# Altium footprint library L11.PcbLib: 7 footprints
Each footprint in its own frame and in the unit in brackets; x right, y up, seen from the top. Pads: shape width x height; smd on the part's side, far side on the other; paste and mask are expansions set on the pad; w line width, h text height; cw(c..) or ccw(c..) is an arc to the next point about the centre after c.
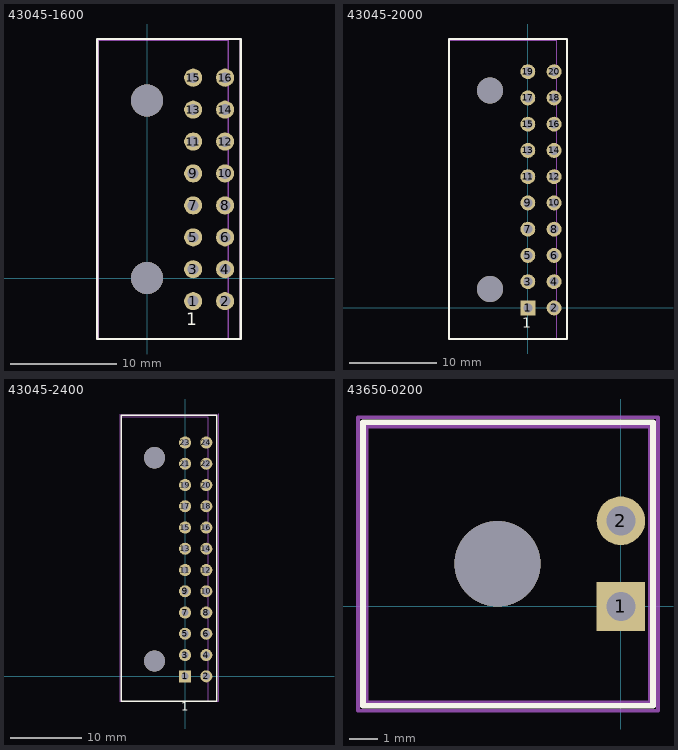
[diagram p0: the footprints below, top view; thin cyan lines are the x and y axes]

## 43045-0800 [mm] "Molex Micro-Fit 3.0 2x4"
3D body "430250800.stp": height 10.7, standoff -0.13, extent -5.969,-7.54 8.031,5.31

## 43045-1600 [mm] "Molex Micro-Fit 3.0 2x8"
pads (16):
  round 1.7 hole 1.02: 1(4.32,-2.16) 2(7.32,-2.16) 3(4.32,0.84) 4(7.32,0.84) 5(4.32,3.84) 6(7.32,3.84) 7(4.32,6.84) 8(7.32,6.84) 9(4.32,9.84) 10(7.32,9.84) 11(4.32,12.84) 12(7.32,12.84) 13(4.32,15.84) 14(7.32,15.84) 15(4.32,18.84) 16(7.32,18.84)
via 0,0 diameter 3 hole 3
via 0,16.7 diameter 3 hole 3
Top Overlay:
  lines w0.2: -4.697,-5.716 -4.697,22.478 8.795,22.478 8.795,-5.716 -4.697,-5.716
  text "1" at 3.683,-4.826 h2
Mechanical 13:
  lines w0.127: -4.618,-5.716 -4.618,22.381 7.622,22.381 7.622,-5.716 -4.618,-5.716
Mechanical 15:
  lines w0.127: -4.697,-5.716 8.745,-5.716 8.745,22.478 -4.697,22.478 -4.697,-5.716
Mechanical 17:
  text "'.Designator'" at -3.302,8.001 h0.5
3D body "c-4-794618-6-h-3d.stp": height 8.73, standoff -3.45, extent -4.618,-5.619 7.622,22.381

## 43045-2000 [mm] "Molex Micro-Fit 3.0 2x10"
pads (20):
  rect 1.7x1.7 hole 1.02: 1(0,0)
  round 1.7 hole 1.02: 2(3,0) 3(0,3) 4(3,3) 5(0,6) 6(3,6) 7(0,9) 8(3,9) 9(0,12) 10(3,12) 11(0,15) 12(3,15) 13(0,18) 14(3,18) 15(0,21) 16(3,21) 17(0,24) 18(3,24) 19(0,27) 20(3,27)
via -4.32,2.16 diameter 3 hole 3
via -4.32,24.86 diameter 3 hole 3
Top Overlay:
  lines w0.2: -9.017,-3.556 4.475,-3.556 4.475,30.734 -9.017,30.734 -9.017,-3.556
  text "1" at -0.637,-2.666 h2
Mechanical 13:
  lines w0.127: -8.938,-3.556 3.302,-3.556 3.302,30.607 -8.938,30.607 -8.938,-3.556
Mechanical 15:
  lines w0.127: -9.017,-3.556 -9.017,30.734 4.425,30.734 4.425,-3.556 -9.017,-3.556
Mechanical 17:
  text "'.Designator'" at -7.622,10.161 h0.5
3D body "430452000.stp": height 8.83, standoff -3.12, extent -8.916,-3.542 3.324,30.608

## 43045-2400 [mm] "Molex Micro-Fit 3.0 2x12"
pads (24):
  rect 1.7x1.7 hole 1.02: 1(0,0)
  round 1.7 hole 1.02: 2(3,0) 3(0,3) 4(3,3) 5(0,6) 6(3,6) 7(0,9) 8(3,9) 9(0,12) 10(3,12) 11(0,15) 12(3,15) 13(0,18) 14(3,18) 15(0,21) 16(3,21) 17(0,24) 18(3,24) 19(0,27) 20(3,27) 21(0,30) 22(3,30) 23(0,33) 24(3,33)
via -4.32,2.16 diameter 3 hole 3
via -4.32,30.86 diameter 3 hole 3
Top Overlay:
  lines w0.2: -9.017,-3.556 4.475,-3.556 4.475,36.825 -9.017,36.825 -9.017,-3.556
  text "1" at -0.5,-5.325 h2
Mechanical 2:
  lines w0.127: -8.938,-3.556 -8.938,36.65 3.302,36.65 3.302,-3.556 -8.938,-3.556
Mechanical 4:
  lines w0.127: -9.2,-3.556 -9.2,37.025 4.675,37.025 4.675,-3.556 -9.2,-3.556
3D body "430452400.stp": height 8.83, standoff -3.12, extent -8.916,-3.542 3.324,36.608

## 43645-0200 [mm] "Molex Micro-Fit 3.0 1x2"
3D body "436450200.stp": height 8.56, standoff 1.38, extent -5.619,-5.25 8.381,3.04

## 43645-0400 [mm] "Molex Micro-Fit 3.0 1x4"
3D body "436450400.stp": height 8.56, standoff 1.35, extent -5.619,-7.53 8.381,5.32

## 43650-0200 [mm] "Molex Micro-Fit 3.0 1x2"
pads (2):
  rect 1.7x1.7 hole 1.02: 1(0,0)
  round 1.7 hole 1.02: 2(0,3)
via -4.32,1.5 diameter 3 hole 3
Top Overlay:
  lines w0.2: -9.025,-3.475 1.125,-3.475 1.125,6.45 -9.025,6.45 -9.025,-3.475
Mechanical 2:
  lines w0.127: -8.89,-3.35 -8.89,6.3 1.01,6.3 1.01,-3.35 -8.89,-3.35
Mechanical 4:
  lines w0.127: -9.2,-3.65 -9.2,6.625 1.3,6.625 1.3,-3.65 -9.2,-3.65
3D body "436500200.stp": height 5.64, standoff -3.27, extent -8.9,-3.325 1,6.325